# EAGLE library part LM5145?* (library LM5145)
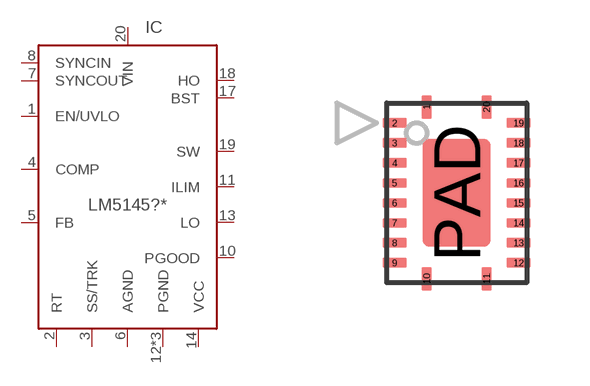
[diagram p0: symbol with the pads of VQFN-20-0.5; footprint VQFN-20-0.5]

Designator prefix IC

## LM5145RGYR (MARK: LM5145; MF: Texas Instruments; MPN: LM5145RGYR), LM5145RGYT (MARK: LM5145; MF: Texas Instruments; MPN: LM5145RGYT)  [VQFN-20-0.5]
1  EN/UVLO  in
2  RT
3  SS/TRK
4  COMP  out
5  FB  in
6  AGND  pwr
7  SYNCOUT  out
8  SYNCIN  in
10  PGOOD  oc
11  ILIM  in
12  PGND  pwr
13  LO  out
14  VCC  out
15  PGND  pwr
17  BST
18  HO  out
19  SW  in
20  VIN  pwr
PAD  PGND  pwr

## Footprint VQFN-20-0.5 (pad centres in mm)
smd 0.25 x 0.6: 1 -0.75,2.15; 10 -0.75,-2.15; 11 0.75,-2.15; 20 0.75,2.15
smd 0.6 x 0.25: 2 -1.55,1.75; 3 -1.55,1.25; 4 -1.55,0.75; 5 -1.55,0.25; 6 -1.55,-0.25; 7 -1.55,-0.75; 8 -1.55,-1.25; 9 -1.55,-1.75; 12 1.55,-1.75; 13 1.55,-1.25; 14 1.55,-0.75; 15 1.55,-0.25; 16 1.55,0.25; 17 1.55,0.75; 18 1.55,1.25; 19 1.55,1.75
smd 1.7 x 2.7: PAD 0,0